# Altium footprint library RELAY-TH_HF49FD-024-1H12.PcbLib: 1 footprints
Each footprint in its own frame and in the unit in brackets; x right, y up, seen from the top. Pads: shape width x height; smd on the part's side, far side on the other; paste and mask are expansions set on the pad; w line width, h text height; cw(c..) or ccw(c..) is an arc to the next point about the centre after c.
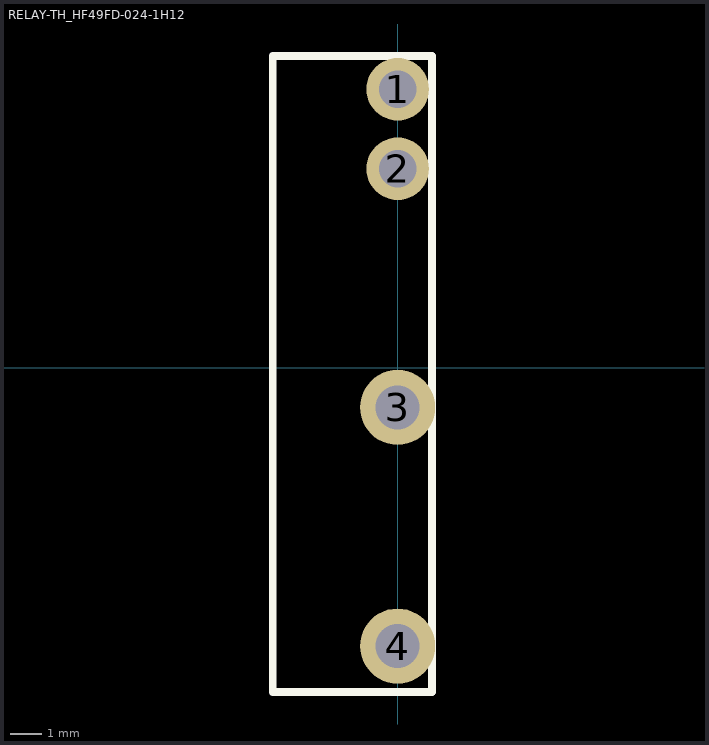
[diagram p0: the footprint, top view; thin cyan lines are the x and y axes]

## RELAY-TH_HF49FD-024-1H12 [mm]
pads (4):
  round 2 hole 1.2: 1(0,8.89) 2(0,6.35)
  round 2.4 hole 1.4: 3(0,-1.27) 4(0,-8.89)
Top Overlay:
  lines w0.254: -3.988,-10.363 1.092,-10.363 1.092,9.957 -3.988,9.957 -3.988,-10.363
3D body: height 0, standoff -3.5, extent -0.381,8.382 0.381,9.398
3D body: height 0, standoff -3.5, extent -0.381,5.842 0.381,6.858
3D body: height 0, standoff -3.5, extent -0.381,-9.398 0.381,-8.382
3D body: height 0, standoff -3.5, extent -0.381,-1.778 0.381,-0.762
3D body: height 12.5, standoff 0, extent -3.937,-10.287 1.092,9.957